# Altium footprint library MMBTA06-7-F.PcbLib: 1 footprints
Each footprint in its own frame and in the unit in brackets; x right, y up, seen from the top. Pads: shape width x height; smd on the part's side, far side on the other; paste and mask are expansions set on the pad; w line width, h text height; cw(c..) or ccw(c..) is an arc to the next point about the centre after c.
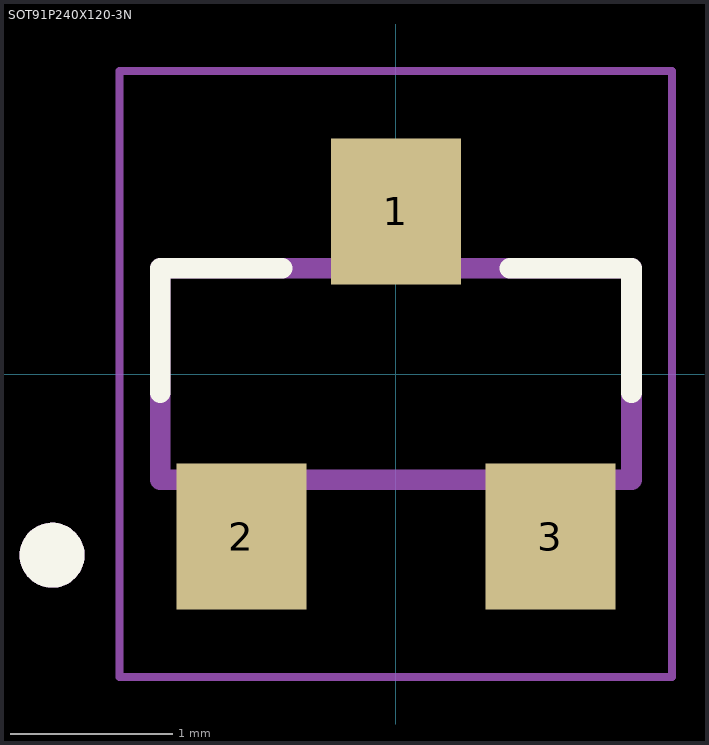
[diagram p0: the footprint, top view; thin cyan lines are the x and y axes]

## SOT91P240X120-3N [mm]
pads (3):
  rect 0.8x0.9 smd: 1(0,1) 2(-0.95,-1) 3(0.95,-1)
Top Overlay:
  circle w0.2: c-2.115,-1.115 r0.1
  lines w0.127: -1.45,-0.115 -1.45,0.65 -0.7,0.65 ; 0.7,0.65 1.45,0.65 1.45,-0.115
Mechanical 13:
  circle w0.2: c-2.115,-1.115 r0.1
  lines w0.127: -1.45,-0.65 1.45,-0.65 1.45,0.65 -1.45,0.65 -1.45,-0.65
Mechanical 15:
  lines w0.05: -1.7,-1.865 -1.7,1.865 1.7,1.865 1.7,-1.865 -1.7,-1.865
3D body "SOT23.stp": height 1.02, standoff 0, extent -1.45,-1.208 1.45,1.207